# Altium footprint library S2B-XH-A.PcbLib: 1 footprints
Each footprint in its own frame and in the unit in brackets; x right, y up, seen from the top. Pads: shape width x height; smd on the part's side, far side on the other; paste and mask are expansions set on the pad; w line width, h text height; cw(c..) or ccw(c..) is an arc to the next point about the centre after c.
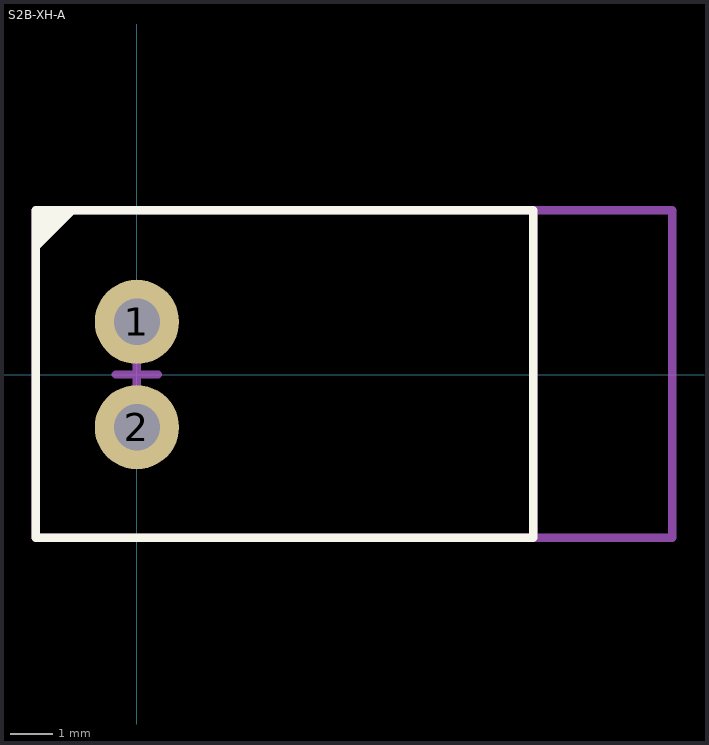
[diagram p0: the footprint, top view; thin cyan lines are the x and y axes]

## S2B-XH-A [mm] "2.5mm 8 pin male"
height 6
pads (2):
  round 2 hole 1.1: 1(0,1.25) 2(0,-1.25)
Top Overlay:
  region: -2.35,3.85 -2.35,2.95 -1.45,3.85
  lines w0.2: -2.4,-3.875 -2.4,3.9 9.4,3.9 9.4,-3.875 -2.4,-3.875
Top Assembly:
  lines w0.2: -2.4,-3.875 9.4,-3.875 9.4,3.9 -2.4,3.9 -2.4,-3.875
Top Courtyard:
  lines w0.2: -2.4,-3.875 12.7,-3.875 12.7,3.9 -2.4,3.9 -2.4,-3.875
Top Component Center:
  lines w0.2: -0.5,0 0.5,0 ; 0,-0.5 0,0.5
3D body "S2B-XH-A.STEP": height 6.1, standoff -3.4, extent -2.25,-3.675 9.25,3.725
3D body "XHP-2.STEP": height 6.2, standoff 0.5, extent 4.12,-3.525 11.87,3.775